# Altium schematic symbol library Capacitor.SchLib: 14 symbols
Pins are listed as number, name and electrical type; pins without a type are passive.

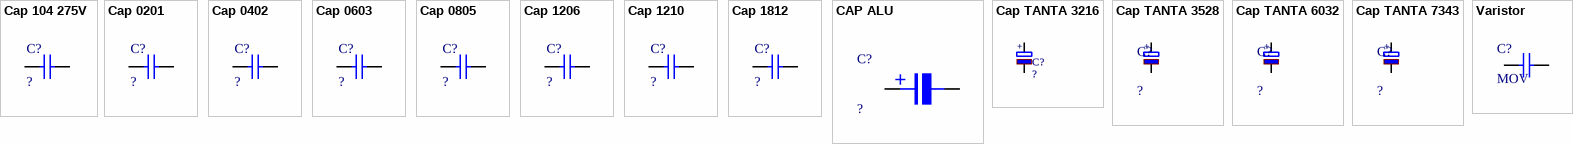
[diagram p0: symbols Cap 104 275V to Varistor]

## Cap 104 275V
designator C?, comment ?
THROUGH HOLE
footprint CAP 15mm
footprint CAP 5mm (104uF, 684uF)
pins: 1, 2

## Cap 0201
designator C?, comment ?
Capacitor SMD 0201
footprint C0201 (Chip Capacitor, 2-Leads, Body 0.65x0.35mm, IPC Medium Density)
pins: 1, 2

## Cap 0402
designator C?, comment ?
Capacitor SMD 0402
footprint C0402
pins: 1, 2

## Cap 0603
designator C?, comment ?
Capacitor SMD 0603
footprint C0603
pins: 1, 2

## Cap 0805
designator C?, comment ?
Capacitor SMD 0805
footprint C0805 (Compoment SMD 80x50mil)
pins: 1, 2

## Cap 1206
designator C?, comment ?
Capacitor SMD 1206
footprint C1206
pins: 1, 2

## Cap 1210
designator C?, comment ?
Capacitor SMD 1210
footprint C1210 (Chip Capacitor, 2-Leads, Body 3.20x2.50mm, IPC Medium Density)
pins: 1, 2

## Cap 1812
designator C?, comment ?
Capacitor SMD 1210
footprint C1812 (Chip Capacitor, 2-Leads, Body 4.50x3.20mm, IPC Medium Density)
pins: 1, 2

## CAP ALU
designator C?, comment ?
CAP ALU SMD
footprint CAP ALU A <4X5.4MM> (SIZE A)
footprint CAP ALU B <5x5.4mm>
footprint CAP ALU C <6.3x5.4mm>
footprint CAP ALU C <6.3x5.4mm>
footprint CAP ALU D <6.3x7.7mm>
footprint CAP ALU D8 <6.3x7.7mm>
footprint CAP ALU E <8x6.2mm>
footprint CAP ALU F <8x10.2mm>
footprint CAP ALU G <10x10.2mm>
footprint CAP ALU G13 <10x10.2mm>
footprint CAP ALU G17 <10x10.2mm>
pins: 1, 2
text: +

## Cap TANTA 3216
designator C?, comment ?
Tantalum Capacitors, 1206
footprint CAP TANTALUM 3216
pins: 1, 2
text: +

## Cap TANTA 3528
designator C?, comment ?
Tantalum Capacitors, 3528
footprint CAP TANTALUM 3528
pins: 1, 2
text: +

## Cap TANTA 6032
designator C?, comment ?
Tantalum Capacitors, 6032
footprint CAP TANTALUM 6032
pins: 1, 2
text: +

## Cap TANTA 7343
designator C?, comment ?
Tantalum Capacitors, 7343
footprint CAP TANTALUM 7343
pins: 1, 2
text: +

## Varistor
designator C?, comment MOV
MOV Varistor 07D471K 470V
footprint Varistor
pins: 1, 2